# Altium schematic symbol library MUSB_05_X_B_SM_A.SchLib: 1 symbol
Pins are listed as number, name and electrical type; pins without a type are passive.

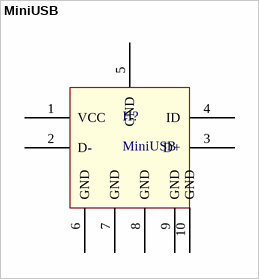
[diagram p0: symbol MiniUSB]

## MiniUSB
designator H?
footprint MiniUSB
pins: 1 VCC, 2 D-, 3 D+, 4 ID, 5 GND, 6 GND, 7 GND, 8 GND, 9 GND, 10 GND